# EAGLE library part EM6K6T2R (library SamacSys_Parts)
MOSFET,dual,N-channel,20V,200mA,SOT563 Source: Datasheet <https://componentsearchengine.com/Datasheets/1/EM6K6T2R.pdf>
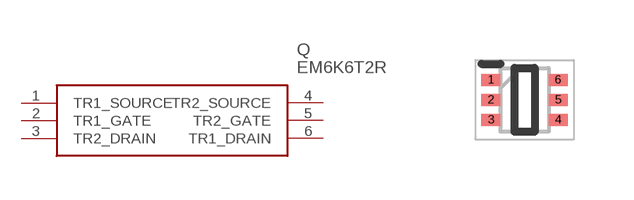
[diagram p5: symbol with the pads of SOTFL50P160X55-6N; footprint SOTFL50P160X55-6N]

Designator prefix Q

## EM6K6T2R (DESCRIPTION: MOSFET,dual,N-channel,20V,200mA,SOT563; HEIGHT: 0.55mm; MANUFACTURER_NAME: ROHM Semiconductor; MANUFACTURER_PART_NUMBER: EM6K6T2R; MOUSER_PART_NUMBER: 755-EM6K6T2R; MOUSER_PRICE-STOCK: https://www.mouser.com/Search/Refine.aspx?Keyword=755-EM6K6T2R)  [SOTFL50P160X55-6N]
1  TR1_SOURCE
2  TR1_GATE
3  TR2_DRAIN
4  TR2_SOURCE
5  TR2_GATE
6  TR1_DRAIN

## Footprint SOTFL50P160X55-6N (pad centres in mm)
SOT-563 (EMT6)
smd 0.475 x 0.3: 1 -0.838,0.5; 2 -0.838,0; 3 -0.838,-0.5; 4 0.838,-0.5; 5 0.838,0; 6 0.838,0.5